# EAGLE library part RESISTER-NET-R4116 (library sibosop)
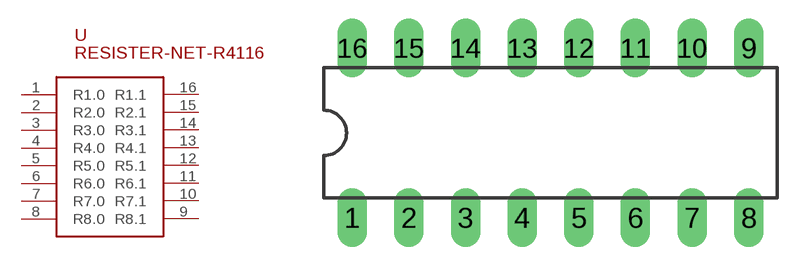
[diagram p9: symbol with the pads of DIP16; footprint DIP16]

Designator prefix U

## RESISTER-NET-R4116  [DIP16]
1  R1.0
2  R2.0
3  R3.0
4  R4.0
5  R5.0
6  R6.0
7  R7.0
8  R8.0
9  R8.1
10  R7.1
11  R6.1
12  R5.1
13  R4.1
14  R3.1
15  R2.1
16  R1.1

## Footprint DIP16 (pad centres in mm)
drill 0.813 long: 1 -8.89,-3.81; 2 -6.35,-3.81; 3 -3.81,-3.81; 4 -1.27,-3.81; 5 1.27,-3.81; 6 3.81,-3.81; 7 6.35,-3.81; 8 8.89,-3.81; 9 8.89,3.81; 10 6.35,3.81; 11 3.81,3.81; 12 1.27,3.81; 13 -1.27,3.81; 14 -3.81,3.81; 15 -6.35,3.81; 16 -8.89,3.81